# Altium footprint library PcbLib.PcbLib: 27 footprints (part 2 of 2)
Each footprint in its own frame and in the unit in brackets; x right, y up, seen from the top. Pads: shape width x height; smd on the part's side, far side on the other; paste and mask are expansions set on the pad; w line width, h text height; cw(c..) or ccw(c..) is an arc to the next point about the centre after c.
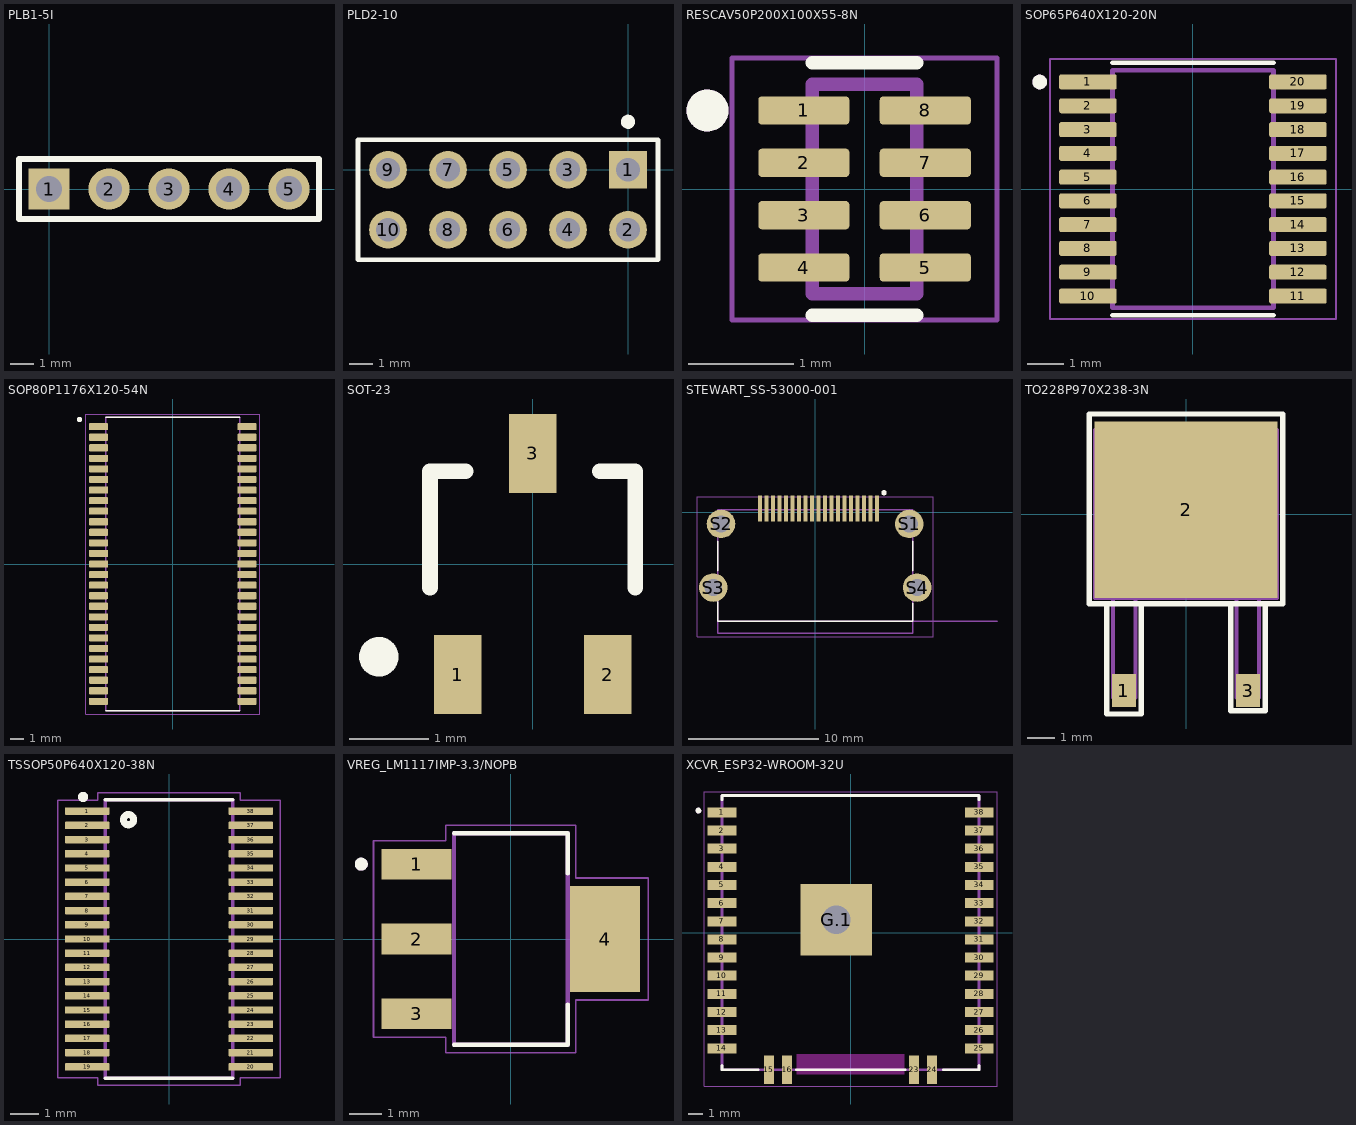
[diagram p1: the footprints below, top view; thin cyan lines are the x and y axes]

## PLB1-5I [mm]
pads (5):
  rect 1.75x1.75 hole 1.1: 1(0,0)
  round 1.75 hole 1.1: 2(2.54,0) 3(5.08,0) 4(7.62,0) 5(10.16,0)
Top Overlay:
  lines w0.25: -1.27,-1.27 -1.27,1.27 11.43,1.27 11.43,-1.27 -1.27,-1.27

## PLD2-10 [mm]
pads (10):
  rect 1.6x1.6 hole 1: 1(0,0)
  round 1.6 hole 1: 2(0,-2.54) 3(-2.54,0) 4(-2.54,-2.54) 5(-5.08,0) 6(-5.08,-2.54) 7(-7.62,0) 8(-7.62,-2.54) 9(-10.16,0) 10(-10.16,-2.54)
Top Overlay:
  circle w0.3: c0,2.032 r0.15
  lines w0.2: -11.43,-3.81 1.27,-3.81 1.27,1.27 -11.43,1.27 -11.43,-3.81
3D body "DS1021-2_5SF11--3DModel-STEP-56544.STEP": height 8.6, standoff -3, extent -11.43,-3.81 1.27,1.27

## RESCAV50P200X100X55-8N [mm]
pads (8):
  rrect25% 0.87x0.27 smd: 1(-0.58,0.75) 2(-0.58,0.25) 3(-0.58,-0.25) 4(-0.58,-0.75) 5(0.58,-0.75) 6(0.58,-0.25) 7(0.58,0.25) 8(0.58,0.75)
Top Overlay:
  circle w0.2: c-1.5,0.75 r0.1
  lines w0.127: -0.5,-1.205 0.5,-1.205 ; -0.5,1.205 0.5,1.205
Mechanical 13:
  circle w0.2: c-1.5,0.75 r0.1
  lines w0.127: -0.5,-1 0.5,-1 0.5,1 -0.5,1 -0.5,-1
Mechanical 15:
  lines w0.05: -1.265,-1.25 1.265,-1.25 1.265,1.25 -1.265,1.25 -1.265,-1.25
3D body "cat10-101j4lf.stp": height 0.37, standoff -0.03, extent -0.5,-1 0.5,1

## SOP65P640X120-20N [mm]
pads (20):
  rrect25% 1.57x0.41 smd: 1(-2.87,2.925) 2(-2.87,2.275) 3(-2.87,1.625) 4(-2.87,0.975) 5(-2.87,0.325) 6(-2.87,-0.325) 7(-2.87,-0.975) 8(-2.87,-1.625) 9(-2.87,-2.275) 10(-2.87,-2.925) 11(2.87,-2.925) 12(2.87,-2.275) 13(2.87,-1.625) 14(2.87,-0.975) 15(2.87,-0.325) 16(2.87,0.325) 17(2.87,0.975) 18(2.87,1.625) 19(2.87,2.275) 20(2.87,2.925)
Top Overlay:
  circle w0.2: c-4.19,2.925 r0.1
  lines w0.127: -2.2,-3.45 2.2,-3.45 ; -2.2,3.45 2.2,3.45
Mechanical 13:
  circle w0.2: c-4.19,2.925 r0.1
  lines w0.127: -2.2,-3.25 2.2,-3.25 2.2,3.25 -2.2,3.25 -2.2,-3.25
Mechanical 15:
  lines w0.05: -3.91,-3.55 3.91,-3.55 3.91,3.55 -3.91,3.55 -3.91,-3.55
3D body "step_temp.STEP": height 1.2, standoff 0, extent -3.2,-3.25 3.2,3.25

## SOP80P1176X120-54N [mm]
pads (54):
  rrect25% 1.44x0.54 smd: 1(-5.62,10.4) 2(-5.62,9.6) 3(-5.62,8.8) 4(-5.62,8) 5(-5.62,7.2) 6(-5.62,6.4) 7(-5.62,5.6) 8(-5.62,4.8) 9(-5.62,4) 10(-5.62,3.2) 11(-5.62,2.4) 12(-5.62,1.6) 13(-5.62,0.8) 14(-5.62,0) 15(-5.62,-0.8) 16(-5.62,-1.6) 17(-5.62,-2.4) 18(-5.62,-3.2) 19(-5.62,-4) 20(-5.62,-4.8) 21(-5.62,-5.6) 22(-5.62,-6.4) 23(-5.62,-7.2) 24(-5.62,-8) 25(-5.62,-8.8) 26(-5.62,-9.6) 27(-5.62,-10.4) 28(5.62,-10.4) 29(5.62,-9.6) 30(5.62,-8.8) 31(5.62,-8) 32(5.62,-7.2) 33(5.62,-6.4) 34(5.62,-5.6) 35(5.62,-4.8) 36(5.62,-4) 37(5.62,-3.2) 38(5.62,-2.4) 39(5.62,-1.6) 40(5.62,-0.8) 41(5.62,0) 42(5.62,0.8) 43(5.62,1.6) 44(5.62,2.4) 45(5.62,3.2) 46(5.62,4) 47(5.62,4.8) 48(5.62,5.6) 49(5.62,6.4) 50(5.62,7.2) 51(5.62,8) 52(5.62,8.8) 53(5.62,9.6) 54(5.62,10.4)
Top Overlay:
  circle w0.2: c-7.06,10.94 r0.1
  lines w0.127: -5.08,-11.11 5.08,-11.11 ; -5.08,11.11 5.08,11.11
Mechanical 13:
  circle w0.2: c-7.06,10.94 r0.1
  lines w0.127: -5.08,-11.11 -5.08,11.11 5.08,11.11 5.08,-11.11 -5.08,-11.11
Mechanical 15:
  lines w0.05: -6.59,-11.36 -6.59,11.36 6.59,11.36 6.59,-11.36 -6.59,-11.36
3D body "AS4C32M16SB-7TIN.STEP": height 1.2, standoff 0, extent -5.88,-11.11 5.88,11.11
3D body "AS4C32M16SB-7TIN (1).STEP": height 1.2, standoff 0, extent -5.88,-11.11 5.88,11.11

## SOT-23 [mm] "SOT-23; 3 Leads; Body 3.1 x 2.5 mm, inc. leads (LxW max)"
height 1.1
pads (3):
  rect 0.6x1 smd: 1(-0.95,-1.4) 2(0.95,-1.4) 3(0,1.4)
Top Overlay:
  circle w0.25: c-1.95,-1.175 r0.125
  lines w0.2: -1.3,-0.3 -1.3,1.175 -0.85,1.175 ; 0.85,1.175 1.3,1.175 1.3,-0.3
3D body "2N7002--3DModel-STEP-56544.STEP": height 1.2, standoff -0.05, extent -1.463,-1.45 1.463,1.35

## STEWART_SS-53000-001 [mm]
pads (23):
  rect 0.3x2 smd: 1(4.75,0.3) 2(4.25,0.3) 3(3.75,0.3) 4(3.25,0.3) 5(2.75,0.3) 6(2.25,0.3) 7(1.75,0.3) 8(1.25,0.3) 9(0.75,0.3) 10(0.25,0.3) 11(-0.25,0.3) 12(-0.75,0.3) 13(-1.25,0.3) 14(-1.75,0.3) 15(-2.25,0.3) 16(-2.75,0.3) 17(-3.25,0.3) 18(-3.75,0.3) 19(-4.25,0.3)
  round 2.2 hole 1.33: S1(7.25,-0.9) S2(-7.25,-0.9) S3(-7.85,-5.8) S4(7.85,-5.8)
Top Overlay:
  circle w0.2: c5.3,1.5 r0.1
  lines w0.127: -7.5,-6.9 -7.5,-8.4 7.5,-8.4 7.5,-7 ; -7.5,-4.48 -7.5,-2.22 ; 7.5,-4.48 7.5,-2.22
Mechanical 13:
  lines w0.127: 14,-8.4 -7.5,-8.4 ; -7.5,-8.4 -7.5,0.18 7.5,0.18 7.5,-9.32 -7.5,-9.32 -7.5,-8.4
Mechanical 15:
  lines w0.05: -9.1,-9.57 -9.1,1.2 9.1,1.2 9.1,-9.57 -9.1,-9.57
3D body "SS-53000-001--3DModel-STEP-56544.STEP": height 6.17, standoff -1.96, extent -8.102,-9.245 8.103,0.864

## TO228P970X238-3N [mil]
pads (3):
  rect 35x48 smd: 1(-90,-256) 3(90,-256)
  rect 265x256 smd: 2(0,6)
Top Overlay:
  lines w7.87: -115,-130 -115,-290 -65,-290 -65,-130 ; 65,-130 65,-285 115,-285 115,-135 ; -140,-130 -140,145 140,145 140,-130 -140,-130
Mechanical 13:
  lines w6: -132,-122 132,-122 132,122 -132,122 -132,-122 ; -106,-266 -106,-122 -73,-122 -73,-266 -106,-266 ; 73,-266 73,-122 106,-122 106,-266 73,-266
3D body "NOPB.STEP": height 104.33, standoff -2.76, extent -128.73,-275.08 128.75,115.08

## TSSOP50P640X120-38N [mm]
pads (38):
  rrect15% 1.56x0.26 smd: 1(-2.88,4.5) 2(-2.88,4) 3(-2.88,3.5) 4(-2.88,3) 5(-2.88,2.5) 6(-2.88,2) 7(-2.88,1.5) 8(-2.88,1) 9(-2.88,0.5) 10(-2.88,0) 11(-2.88,-0.5) 12(-2.88,-1) 13(-2.88,-1.5) 14(-2.88,-2) 15(-2.88,-2.5) 16(-2.88,-3) 17(-2.88,-3.5) 18(-2.88,-4) 19(-2.88,-4.5) 20(2.88,-4.5) 21(2.88,-4) 22(2.88,-3.5) 23(2.88,-3) 24(2.88,-2.5) 25(2.88,-2) 26(2.88,-1.5) 27(2.88,-1) 28(2.88,-0.5) 29(2.88,0) 30(2.88,0.5) 31(2.88,1) 32(2.88,1.5) 33(2.88,2) 34(2.88,2.5) 35(2.88,3) 36(2.88,3.5) 37(2.88,4) 38(2.88,4.5)
Top Overlay:
  circle w0.2: c-3.023,5 r0.08
  circle w0.25: c-1.423,4.2 r0.18
  lines w0.127: -2.25,-4.9 2.25,-4.9 ; -2.25,4.9 2.25,4.9
Mechanical 13:
  lines w0.127: -2.25,-4.9 2.25,-4.9 2.25,4.9 -2.25,4.9 -2.25,-4.9
Mechanical 15:
  lines w0.05: -3.91,-4.88 -2.5,-4.88 -2.5,-5.15 2.5,-5.15 2.5,-4.88 3.91,-4.88 3.91,4.88 2.5,4.88 2.5,5.15 -2.5,5.15 -2.5,4.88 -3.91,4.88 -3.91,-4.88
3D body "CM2020-00TR--3DModel-STEP-56544.STEP": height 1.15, standoff -0.05, extent -3.2,-4.85 3.2,4.85

## VREG_LM1117IMP-3.3/NOPB [mm]
pads (4):
  rect 2.15x0.95 smd: 1(-2.9,2.3) 2(-2.9,0) 3(-2.9,-2.3)
  rect 2.15x3.25 smd: 4(2.9,0)
Top Overlay:
  circle w0.2: c-4.6,2.3 r0.1
  lines w0.127: -1.75,-3.25 1.75,-3.25 1.75,-2.01 ; -1.75,3.25 1.75,3.25 1.75,2.01
Mechanical 13:
  circle w0.2: c-4.6,2.3 r0.1
  lines w0.127: -1.75,-3.25 1.75,-3.25 1.75,3.25 -1.75,3.25 -1.75,-3.25
Mechanical 15:
  lines w0.05: -4.225,-3.025 -2,-3.025 -2,-3.5 2,-3.5 2,-1.875 4.225,-1.875 4.225,1.875 2,1.875 2,3.5 -2,3.5 -2,3.025 -4.225,3.025 -4.225,-3.025
3D body "LM1117IMP-3.3.STEP": height 1.8, standoff 0, extent -3.5,-3.25 3.5,3.25

## XCVR_ESP32-WROOM-32U [mm]
pads (33):
  rect 2x0.7 smd: 1(-9,8.41) 2(-9,7.14) 3(-9,5.87) 4(-9,4.6) 5(-9,3.33) 6(-9,2.06) 7(-9,0.79) 8(-9,-0.48) 9(-9,-1.75) 10(-9,-3.02) 11(-9,-4.29) 12(-9,-5.56) 13(-9,-6.83) 14(-9,-8.1) 25(9,-8.1) 26(9,-6.83) 27(9,-5.56) 28(9,-4.29) 29(9,-3.02) 30(9,-1.75) 31(9,-0.48) 32(9,0.79) 33(9,2.06) 34(9,3.33) 35(9,4.6) 36(9,5.87) 37(9,7.14) 38(9,8.41)
  rect 0.7x2 smd: 15(-5.715,-9.6) 16(-4.445,-9.6) 23(4.445,-9.6) 24(5.715,-9.6)
  rect 5x5 / inner rect 5x5 / far side round 2.8 hole 2: G.1(-1,0.91)
Top Layer keep-out:
  region: -3.75,-8.5 -3.75,-9.9 3.75,-9.9 3.75,-8.5
Top Overlay:
  circle w0.2: c-10.65,8.54 r0.1
  lines w0.2: -9,-9.3 -9,-9.6 -6.49,-9.6 ; -9,9.3 -9,9.6 9,9.6 9,9.3 ; -3.8,-9.6 3.8,-9.6 ; 6.49,-9.6 9,-9.6 9,-9.3
Mechanical 13:
  circle w0.2: c-10.65,8.54 r0.1
  lines w0.2: -9,-9.6 9,-9.6 9,9.6 -9,9.6 -9,-9.6
Mechanical 15:
  lines w0.05: -10.25,-10.75 10.25,-10.75 10.25,9.85 -10.25,9.85 -10.25,-10.75
3D body "ESP32-WROOM-32U--3DModel-STEP-56544.STEP": height 3.3, standoff 0, extent -9,-9.6 9,9.6